# Altium schematic symbol library Schematics.SchLib: 1 symbol
Pins are listed as number, name and electrical type; pins without a type are passive.

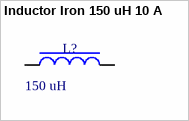
[diagram p0: symbol Inductor Iron 150 uH 10 A]

## Inductor Iron 150 uH 10 A
designator L?  value 150 uH  (hidden comment: Inductor Iron 150 uH 10 A)
Idc_max: 10 A
footprint Inductor Toroidal Iron D40 H12 L10 CLOSE LEADS (Inductor Toroidal Iron 40MM diameter 12MM height 10MM lead spacing ( close ))
footprint Inductor Toroidal Iron D40 H12 L17 45DEG LEADS (Inductor Toroidal Iron 40MM diameter 12MM height 17MM lead spacing ( 45 deg ))
footprint Inductor Toroidal Iron D40 H12 L31 90DEG LEADS (Inductor Toroidal Iron 40MM diameter 12MM height 31MM lead spacing ( 90 deg ))
pins: 1, 2